# Altium footprint library DPAK.PcbLib: 1 footprints
Each footprint in its own frame and in the unit in brackets; x right, y up, seen from the top. Pads: shape width x height; smd on the part's side, far side on the other; paste and mask are expansions set on the pad; w line width, h text height; cw(c..) or ccw(c..) is an arc to the next point about the centre after c.
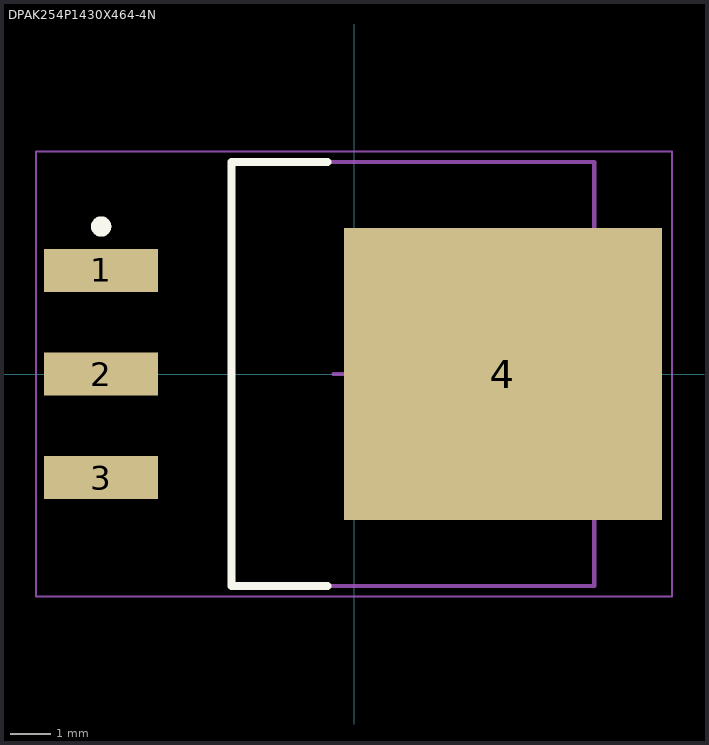
[diagram p0: the footprint, top view; thin cyan lines are the x and y axes]

## DPAK254P1430X464-4N [mm] "D2-PAK, 4-Pads, Body 7.55x8.56mm (max), IPC Medium Density"
height 4.64
pads (4):
  rect 2.8x1.05 smd: 1(-6.2,2.54) 2(-6.2,0) 3(-6.2,-2.54)
  rect 7.8x7.15 smd: 4(3.65,0)
Top Overlay:
  circle w0.25: c-6.2,3.615 r0.125
  lines w0.2: -0.65,-5.2 -3,-5.2 -3,5.2 -0.65,5.2
Mechanical 13:
  lines w0.1: -3,-5.2 5.89,-5.2 5.89,5.2 -3,5.2 -3,-5.2
Mechanical 15:
  lines w0.05: -7.8,-5.45 7.8,-5.45 7.8,5.45 -7.8,5.45 -7.8,-5.45
  lines w0.1: -0.5,0 0.5,0 ; 0,-0.5 0,0.5
3D body: height 4.64, standoff 0.15, extent -3,-5.2 5.89,5.2